# Altium integrated library Elantec Operational Amplifier.IntLib: 201 symbols (part 4 of 4)
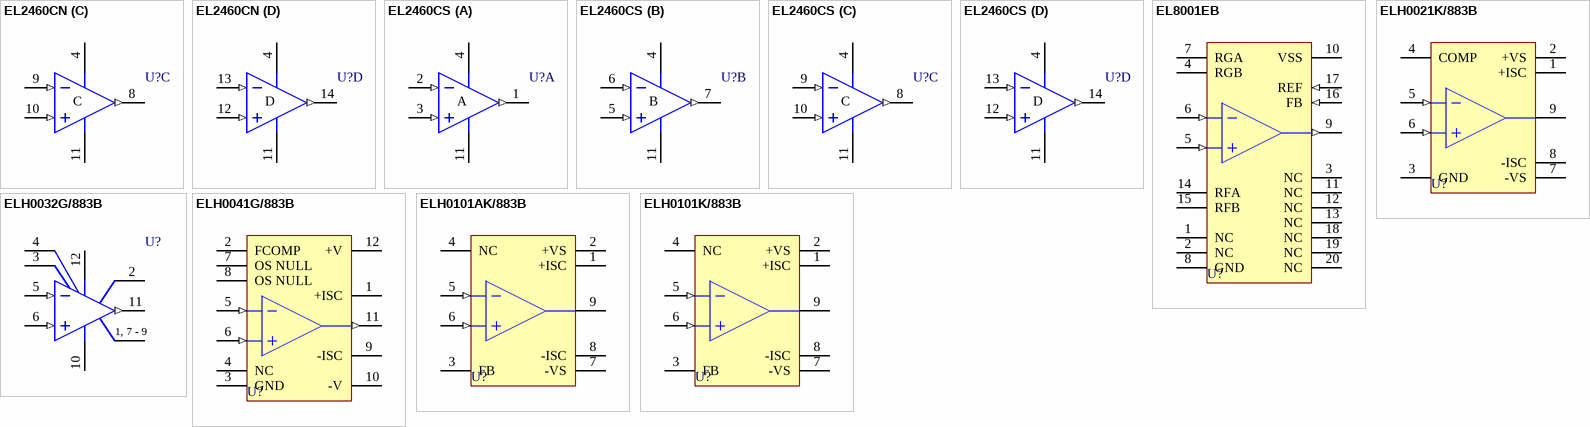
[diagram p10: symbols EL2460CN to ELH0101K/883B]

## ELH0041G/883B
designator U?
0.1 Amp Power Operational Amplifier; Note: Pin 4 is No Connection; Published: 8-Jun-2000; LatestRevisionDate: 17-Jul-2002; LatestRevisionNote: Re-released for DXP Platform.; DatasheetVersion: Sep-1992; PackageVersion: 1993; PackageReference: MDP0002; Publisher: Altium Limited; PackageDescription: Can; 12 Leads; 10.16 mm Square Array; Lead Dia. 0.48 mm (max); ComponentLink1Description: Manufacturer Link; ComponentLink1URL: http://www.intersil.com/cda/home/
footprint MDP0002 (Can; 12 Leads; 10.16 mm Square Array; Lead Dia. 0.48 mm (max))
pins: 1 +ISC (power), 2 FCOMP, 3 GND (power), 4 NC, 5 IN- (in), 6 IN+ (in), 7 OS NULL, 8 OS NULL, 9 -ISC (power), 10 -V (power), 11 OUT (out), 12 +V (power)

## ELH0101AK/883B
designator U?
Power Operational Amplifier; Note: Case is output. Pin 4 is Electrically connected internally & no connection should be made; Published: 8-Jun-2000; LatestRevisionDate: 17-Jul-2002; LatestRevisionNote: Re-released for DXP Platform.; DatasheetVersion: Dec-1994; PackageVersion: 1993; PackageReference: MDP0003; Publisher: Altium Limited; PackageDescription: Oval Flange Mount; 8 Leads; Pin Circle Dia. 12.7 mm; Lead Dia. 1.12 mm (max); ComponentLink1Description: Manufacturer Link; ComponentLink1URL: http://www.intersil.com/cda/home/
footprint MDP0003 (Oval Flange Mount; 8 Leads; Pin Circle Dia. 12.7 mm; Lead Dia. 1.12 mm (max))
pins: 1 +ISC (power), 2 +VS (power), 3 FB (power), 4 NC, 5 IN- (in), 6 IN+ (in), 7 -VS (power), 8 -ISC (power), 9 OUT (CASE)

## ELH0101K/883B
designator U?
Power Operational Amplifier; Note: Case is output. Pin 4 is Electrically connected internally & no connection should be made; Published: 8-Jun-2000; LatestRevisionDate: 17-Jul-2002; LatestRevisionNote: Re-released for DXP Platform.; DatasheetVersion: Dec-1994; PackageVersion: 1993; PackageReference: MDP0003; Publisher: Altium Limited; PackageDescription: Oval Flange Mount; 8 Leads; Pin Circle Dia. 12.7 mm; Lead Dia. 1.12 mm (max); ComponentLink1Description: Manufacturer Link; ComponentLink1URL: http://www.intersil.com/cda/home/
footprint MDP0003 (Oval Flange Mount; 8 Leads; Pin Circle Dia. 12.7 mm; Lead Dia. 1.12 mm (max))
pins: 1 +ISC (power), 2 +VS (power), 3 FB (power), 4 NC, 5 IN- (in), 6 IN+ (in), 7 -VS (power), 8 -ISC (power), 9 OUT (CASE)